# Altium schematic symbol library MOVTP20V275N.SchLib: 1 symbol
Pins are listed as number, name and electrical type; pins without a type are passive.

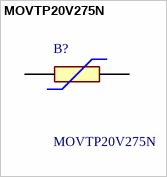
[diagram p0: symbol MOVTP20V275N]

## MOVTP20V275N
designator B?
430 V 10 kA Varistor 1 Circuit Through Hole Disc 20mm; Manufacturer_Name: Eaton; Geometry.Height: 31.5mm; Manufacturer_Part_Number: MOVTP20V275N; Mouser Part Number: *; Mouser Price/Stock: *; Arrow Part Number: *; Arrow Price/Stock: *; Datasheet Link: https://www.eaton.com/content/dam/eaton/products/electronic-components/resources/data-sheet/eaton-movtp-metal-oxide-varistor-thermal-protected-data-sheet-elx1079-en.pdf
footprint MOVTP20V275N
pins: 1, 2